# Altium footprint library Keebs.PcbLib: 219 footprints (part 6 of 14)
Each footprint in its own frame and in the unit in brackets; x right, y up, seen from the top. Pads: shape width x height; smd on the part's side, far side on the other; paste and mask are expansions set on the pad; w line width, h text height; cw(c..) or ccw(c..) is an arc to the next point about the centre after c.
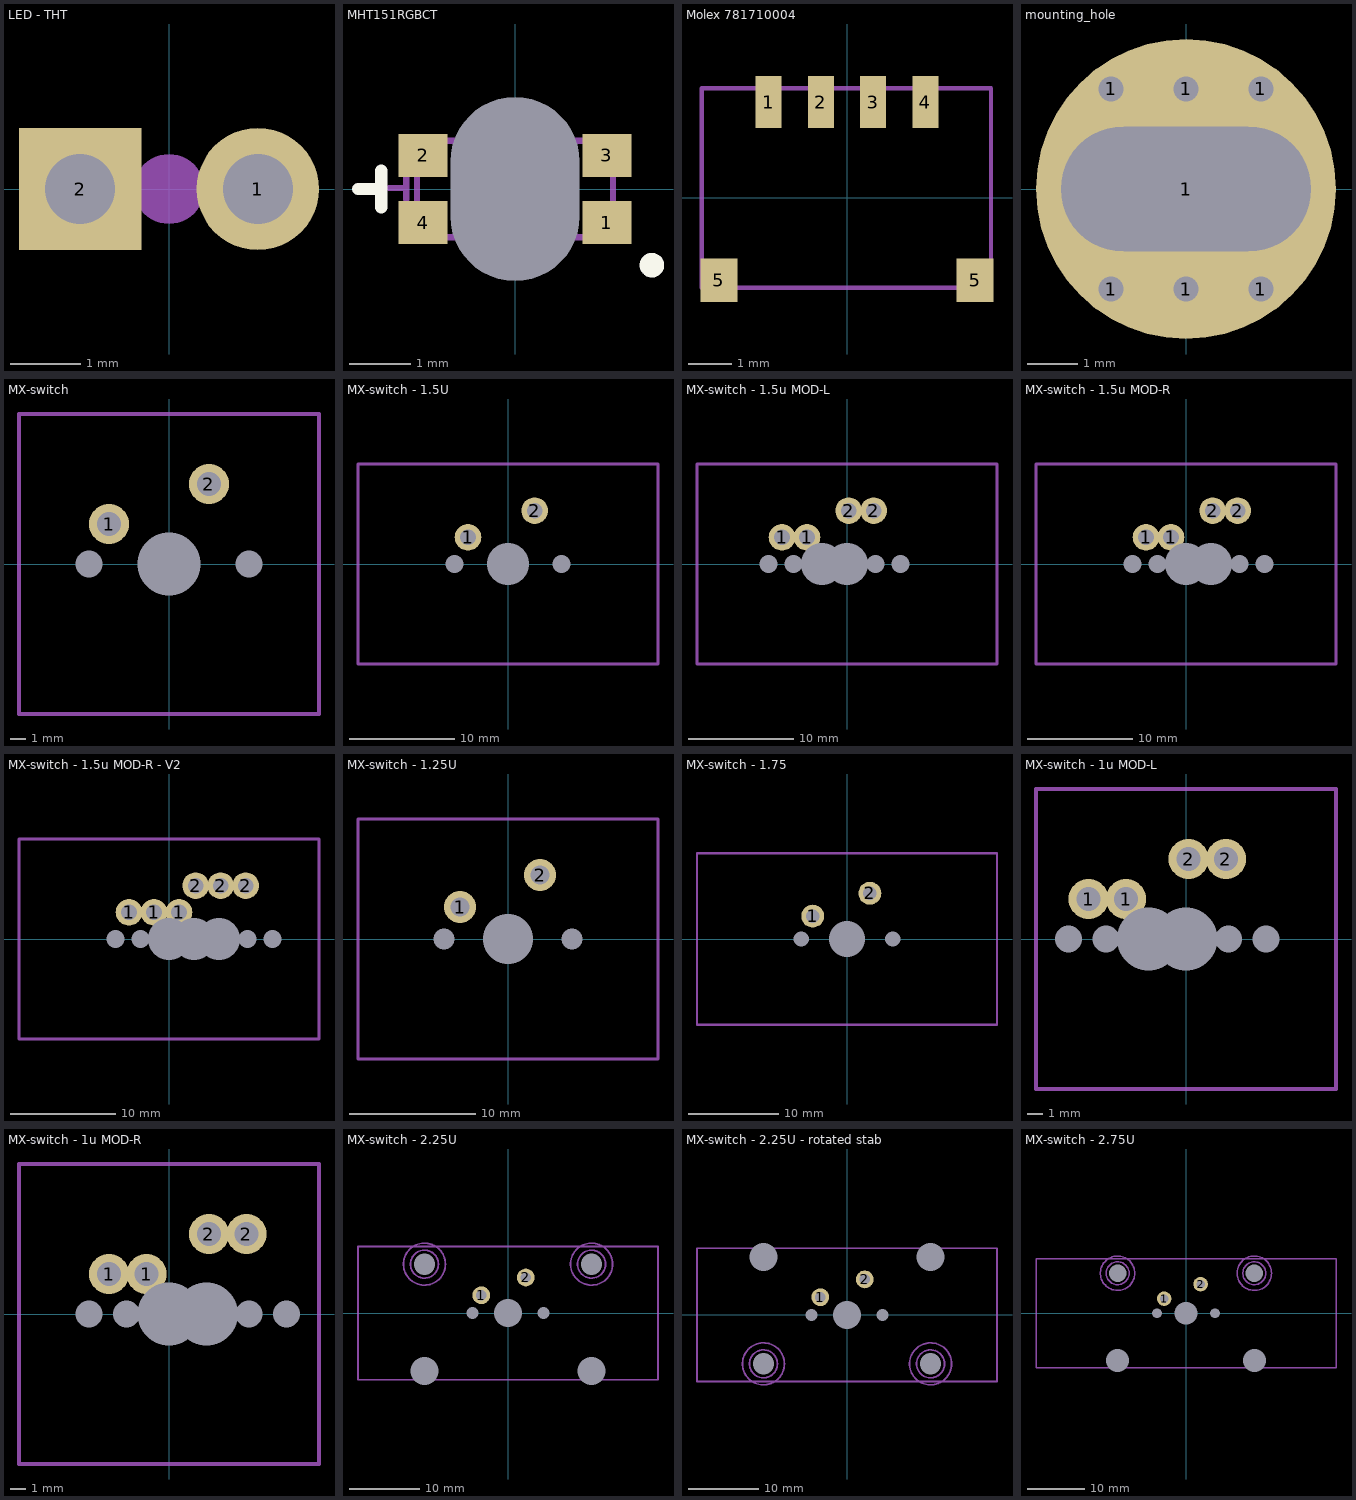
[diagram p5: the footprints below, top view; thin cyan lines are the x and y axes]

## LED - THT [mm]
pads (3):
  round 1.75 hole 1 mask+0.102: 1(1.27,0)
  rect 1.75x1.75 hole 1 mask+0.102: 2(-1.27,0)
  round 1 on Mech14: ""(0,0)
Mechanical 14:
  text ".Designator" at 3.575,-3.7 h0.7

## MHT151RGBCT [mm] "For MHT151RGBCT/E6CC1205RGBC3UDA"
pads (5):
  rect 0.8x0.7 smd: 1(1.5,-0.55) 2(-1.5,0.55) 3(1.5,0.55) 4(-1.5,-0.55)
  round 0 hole 2.1 slot 3 at 90 deg unplated: ""(0,0)
Top Overlay:
  circle w0.2: c2.235,-1.245 r0.1
  lines w0.2: -2.565,0 -2.184,0 ; -2.184,-0.3 -2.184,0.3
Mechanical 13:
  lines w0.1: -2.057,0.018 -1.778,0.018 ; -1.778,-0.167 -1.778,0.203 ; -1.6,-0.787 -1.6,0.787 1.6,0.787 1.6,-0.787 -1.6,-0.787
  text ".Designator" at -1.372,-0.33 h0.5
3D body "APTBD3216.STEP": height 0.33, standoff -1.48, extent -1.6,-0.8 1.6,0.8

## Molex 781710004 [mm]
pads (6):
  rect 0.6x1.2 smd: 1(-1.8,2.2) 2(-0.6,2.2) 3(0.6,2.2) 4(1.8,2.2)
  rect 0.85x1 smd: 5(-2.94,-1.887) 5(2.94,-1.887)
Mechanical 13:
  lines w0.1: -3.327,-2.057 -3.327,2.515 3.302,2.515 3.302,-2.057 -3.327,-2.057
  text ".Designator" at -2.891,-0.338 h0.7
3D body "781710004.stp": height 1.5, standoff 0.05, extent -3.3,-2.047 3.3,2.483

## mounting_hole [mm]
pads (7):
  round 1 hole 0.5 paste+0 mask+0: 1(-1.5,-2) 1(-1.5,2) 1(0,-2) 1(0,2) 1(1.5,-2) 1(1.5,2)
  round 6 hole 2.5 slot 5 at 0 deg: 1(0,0)

## MX-switch [mm]
pads (5):
  round 2.54 hole 1.5 mask-0.5: 1(-3.81,2.54) 2(2.54,5.08)
  round 1 hole 1.7 unplated: ""(-5.08,0) ""(5.08,0)
  round 1 hole 4 unplated: ""(0,0)
Mechanical 13:
  lines w0.254: -9.525,-9.525 9.525,-9.525 9.525,9.525 -9.525,9.525 -9.525,-9.525
  text ".Designator" at -3.575,-3.7 h0.7

## MX-switch - 1.5U [mm]
pads (6):
  round 2.54 hole 1.5 mask-0.5: 1(-3.81,2.54) 2(2.54,5.08)
  round 1 hole 1.7 unplated: ""(-5.08,0) ""(5.08,0)
  round 1 on Mech13: ""(0,0)
  round 1 hole 4 unplated: ""(0,0)
Mechanical 13:
  lines w0.254: -14.287,-9.525 14.287,-9.525 14.287,9.525 -14.287,9.525 -14.287,-9.525
  text ".Designator" at -3.825,-3.375 h0.7

## MX-switch - 1.5u MOD-L [mm]
pads (14):
  round 2.54 hole 1.5 mask-0.5: 1(-6.191,2.54) 1(-3.81,2.54) 2(0.159,5.08) 2(2.54,5.08)
  round 1 hole 1.7 unplated: ""(-7.461,0) ""(-5.08,0) ""(2.699,0) ""(5.08,0)
  round 1 on Mech13: ""(-4.763,0) ""(-2.381,0) ""(0,0) ""(4.763,0)
  round 1 hole 4 unplated: ""(-2.381,0) ""(0,0)
Mechanical 13:
  lines w0.254: -14.287,-9.525 -14.287,9.525 14.287,9.525 14.287,-9.525 -14.287,-9.525
  text ".Designator" at 2.9,2.625 h0.7

## MX-switch - 1.5u MOD-R [mm]
pads (14):
  round 2.54 hole 1.5 mask-0.5: 1(-3.81,2.54) 1(-1.429,2.54) 2(2.54,5.08) 2(4.921,5.08)
  round 1 hole 1.7 unplated: ""(-5.08,0) ""(-2.699,0) ""(5.08,0) ""(7.461,0)
  round 1 on Mech13: ""(-2.381,0) ""(0,0) ""(2.381,0) ""(4.763,0)
  round 1 hole 4 unplated: ""(0,0) ""(2.381,0)
Mechanical 13:
  lines w0.254: -14.287,-9.525 14.287,-9.525 14.287,9.525 -14.287,9.525 -14.287,-9.525
  text ".Designator" at -10.675,-5.325 h0.7

## MX-switch - 1.5u MOD-R - V2 [mm]
pads (17):
  round 2.54 hole 1.5 mask-0.5: 1(-3.81,2.54) 1(-1.429,2.54) 1(0.953,2.54) 2(2.54,5.08) 2(4.921,5.08) 2(7.302,5.08)
  round 1 hole 1.7 unplated: ""(-5.08,0) ""(-2.699,0) ""(7.461,0) ""(9.842,0)
  round 1 on Mech13: ""(-2.381,0) ""(0,0) ""(2.381,0) ""(4.763,0)
  round 1 hole 4 unplated: ""(0,0) ""(2.381,0) ""(4.763,0)
Mechanical 13:
  lines w0.254: -14.287,-9.525 -14.287,9.525 14.287,9.525 14.287,-9.525 -14.287,-9.525
  text ".Designator" at -10.675,-5.325 h0.7

## MX-switch - 1.25U [mm]
pads (6):
  round 2.54 hole 1.5 mask-0.5: 1(-3.81,2.54) 2(2.54,5.08)
  round 1 hole 1.7 unplated: ""(-5.08,0) ""(5.08,0)
  round 1 on Mech13: ""(0,0)
  round 1 hole 4 unplated: ""(0,0)
Mechanical 13:
  lines w0.254: -11.906,-9.525 -11.906,9.525 11.906,9.525 11.906,-9.525 -11.906,-9.525
  text ".Designator" at -3.425,-3.425 h0.7

## MX-switch - 1.75 [mm]
pads (6):
  round 2.54 hole 1.5 mask-0.5: 1(-3.81,2.54) 2(2.54,5.08)
  round 1 hole 1.7 unplated: ""(-5.08,0) ""(5.08,0)
  round 1 on Mech13: ""(0,0)
  round 1 hole 4 unplated: ""(0,0)
Mechanical 13:
  lines w0.254: -16.669,-9.525 16.669,-9.525 16.669,9.525 -16.669,9.525 -16.669,-9.525
  text ".Designator" at -3.825,-3.375 h0.7

## MX-switch - 1u MOD-L [mm]
pads (13):
  round 2.54 hole 1.5 mask-0.5: 1(-6.191,2.54) 1(-3.81,2.54) 2(0.159,5.08)
  round 2.54 hole 1.499 mask-0.5: 2(2.54,5.08)
  round 1 hole 1.7 unplated: ""(-7.461,0) ""(-5.08,0) ""(2.699,0) ""(5.08,0)
  round 1 on Mech13: ""(-2.381,0) ""(0,0) ""(2.381,0)
  round 1 hole 4 unplated: ""(-2.381,0) ""(0,0)
Mechanical 13:
  lines w0.254: -9.525,-9.525 -9.525,9.525 9.525,9.525 9.525,-9.525 -9.525,-9.525
  text ".Designator" at -1.925,-7.85 h0.7

## MX-switch - 1u MOD-R [mm]
pads (14):
  round 2.54 hole 1.5 mask-0.5: 1(-3.81,2.54) 1(-1.429,2.54) 2(2.54,5.08) 2(4.921,5.08)
  round 1 hole 1.7 unplated: ""(-5.08,0) ""(-2.699,0) ""(5.08,0) ""(7.461,0)
  round 1 on Mech13: ""(-4.763,0) ""(-2.381,0) ""(0,0) ""(2.381,0)
  round 1 hole 4 unplated: ""(0,0) ""(2.381,0)
Mechanical 13:
  lines w0.254: -9.525,-9.525 9.525,-9.525 9.525,9.525 -9.525,9.525 -9.525,-9.525
  text ".Designator" at -4.225,-8.325 h0.7

## MX-switch - 2.25U [mm]
pads (10):
  round 2.54 hole 1.5 mask-0.5: 1(-3.81,2.54) 2(2.54,5.08)
  round 1.524 hole 4 unplated: ""(-11.938,-8.255) ""(11.938,-8.255)
  round 1.524 hole 3.048 unplated: ""(-11.938,6.985) ""(11.938,6.985)
  round 1 hole 1.7 unplated: ""(-5.08,0) ""(5.08,0)
  round 1 on Mech13: ""(0,0)
  round 1 hole 4 unplated: ""(0,0)
Mechanical 13:
  lines w0.254: -21.431,-9.525 21.431,-9.525 21.431,9.525 -21.431,9.525 -21.431,-9.525
  text ".Designator" at -3.825,-3.375 h0.7
Mechanical 15:
  circle w0.254: c-11.938,6.985 r2
  circle w0.254: c-11.938,6.985 r3
  circle w0.254: c11.938,6.985 r2
  circle w0.254: c11.938,6.985 r3

## MX-switch - 2.25U - rotated stab [mm]
pads (10):
  round 2.54 hole 1.5 mask-0.5: 1(-3.81,2.54) 2(2.54,5.08)
  round 1.524 hole 3.048 unplated: ""(-11.938,-6.985) ""(11.938,-6.985)
  round 1.524 hole 4 unplated: ""(-11.938,8.255) ""(11.938,8.255)
  round 1 hole 1.7 unplated: ""(-5.08,0) ""(5.08,0)
  round 1 on Mech13: ""(0,0)
  round 1 hole 4 unplated: ""(0,0)
Mechanical 13:
  lines w0.254: -21.431,-9.525 21.431,-9.525 21.431,9.525 -21.431,9.525 -21.431,-9.525
  text ".Designator" at -3.825,-3.375 h0.7
Mechanical 15:
  circle w0.254: c11.938,-6.985 r3
  circle w0.254: c11.938,-6.985 r2
  circle w0.254: c-11.938,-6.985 r3
  circle w0.254: c-11.938,-6.985 r2

## MX-switch - 2.75U [mm]
pads (10):
  round 2.54 hole 1.5 mask-0.5: 1(-3.81,2.54) 2(2.54,5.08)
  round 1.524 hole 4 unplated: ""(-11.938,-8.255) ""(11.938,-8.255)
  round 1.524 hole 3.048 unplated: ""(-11.938,6.985) ""(11.938,6.985)
  round 1 hole 1.7 unplated: ""(-5.08,0) ""(5.08,0)
  round 1 on Mech13: ""(0,0)
  round 1 hole 4 unplated: ""(0,0)
Mechanical 13:
  lines w0.254: -26.194,-9.525 -26.194,9.525 26.194,9.525 26.194,-9.525 -26.194,-9.525
  text ".Designator" at -3.825,-3.375 h0.7
Mechanical 15:
  circle w0.254: c11.938,6.985 r3
  circle w0.254: c11.938,6.985 r2
  circle w0.254: c-11.938,6.985 r3
  circle w0.254: c-11.938,6.985 r2